# Altium schematic symbol library GuitarLibrary.SchLib: 49 symbols
Pins are listed as number, name and electrical type; pins without a type are passive.

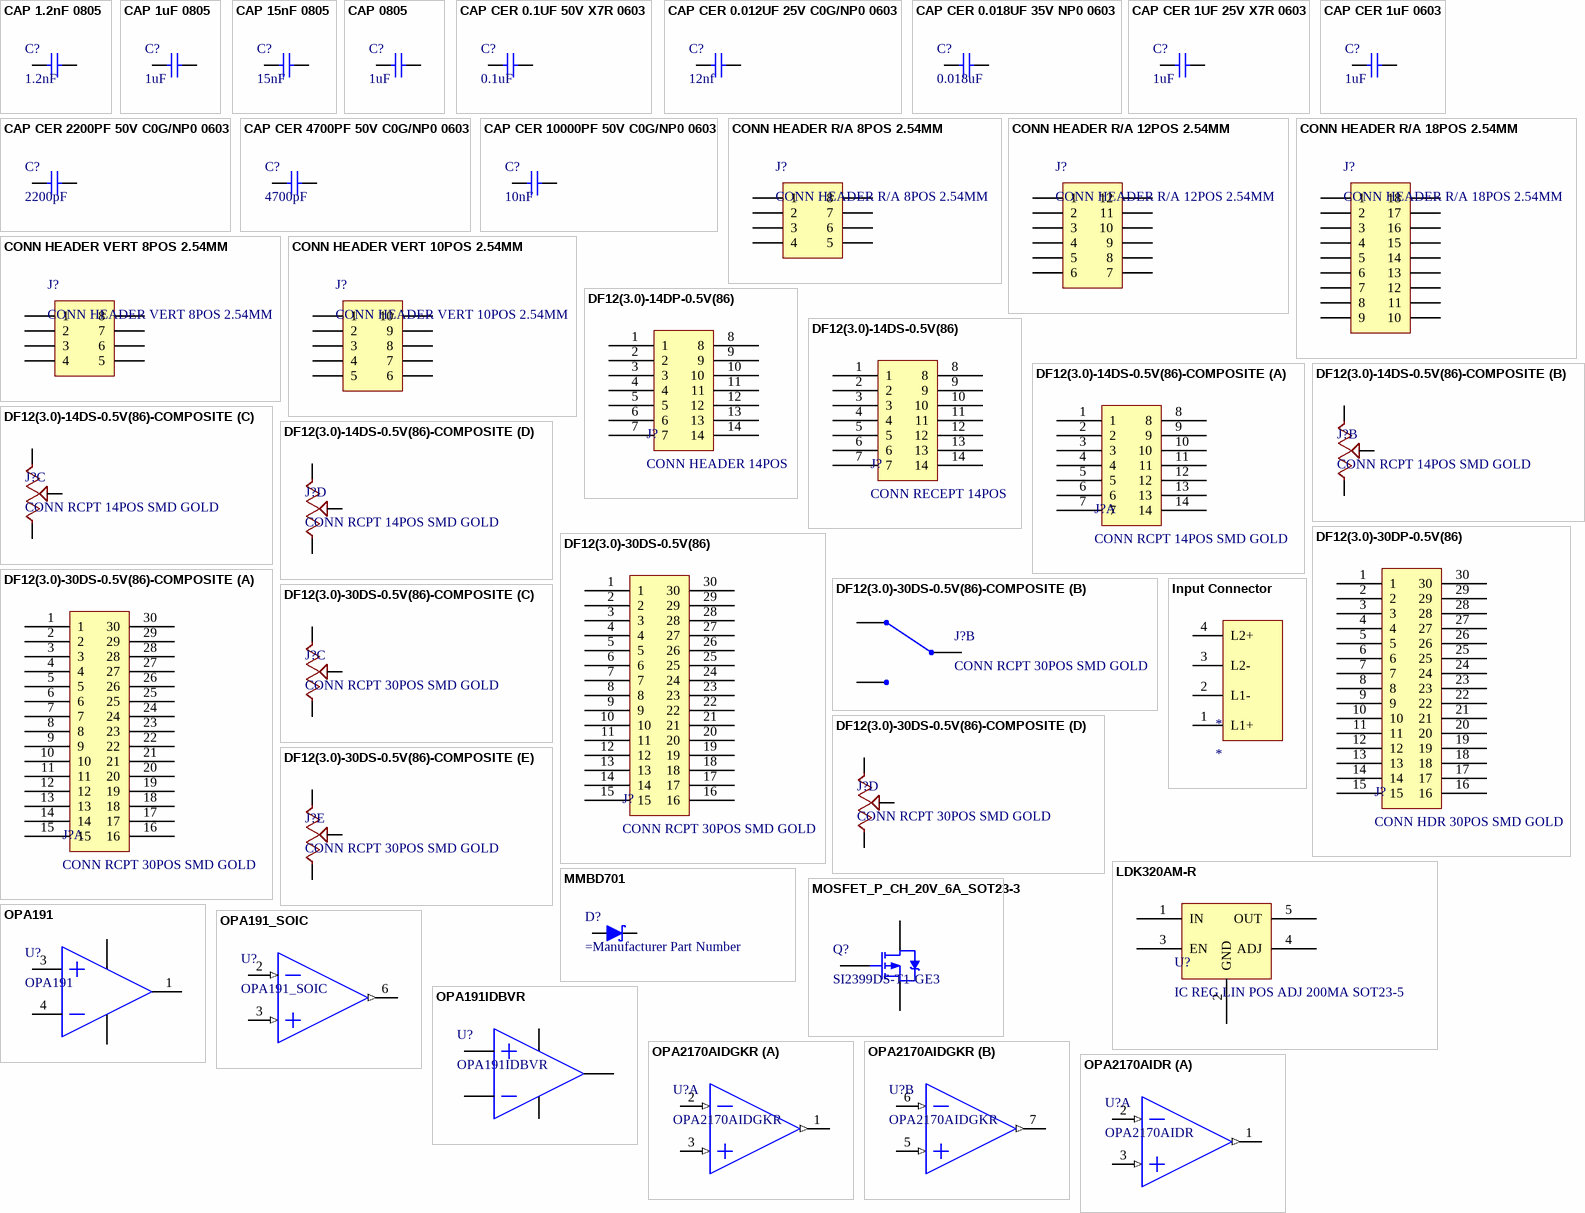
[diagram p0: symbols CAP 1.2nF 0805 to OPA2170AIDR]

## CAP 1.2nF 0805
designator C?, comment 1.2nF
CAP 1.2nF 0805; Rating: C0G; Value: 1.2nF
footprint CAPC2012X09N (Chip Capacitor, 2-Leads, Body 2.00x1.25mm, IPC Medium Density)
pins: 1, 2

## CAP 1uF 0805
designator C?, comment 1uF
CAP 1uF 0805; Rating: X7R; Value: 1uF
footprint CAPC2012X09N (Chip Capacitor, 2-Leads, Body 2.00x1.25mm, IPC Medium Density)
pins: 1, 2

## CAP 15nF 0805
designator C?, comment 15nF
CAP 15nF 0805; Rating: C0G; Value: 15nF
footprint CAPC2012X09N (Chip Capacitor, 2-Leads, Body 2.00x1.25mm, IPC Medium Density)
pins: 1, 2

## CAP 0805
designator C?, comment 1uF
CAP 0805; Value: 1uF
footprint CAPC2012X09N (Chip Capacitor, 2-Leads, Body 2.00x1.25mm, IPC Medium Density)
pins: 1, 2

## CAP CER 0.1UF 50V X7R 0603
designator C?, comment 0.1uF
0.1µF ±10% 50V Ceramic Capacitor X7R 0603 (1608 Metric); Value: 0.1uF; Digikey Part Number: 1276-CL10B104KB8NNNLCT-ND; Package: 0603; Voltage: 50V; Rating: X7R; Tolerance: 10%
footprint CAPC1608X09N (Chip Capacitor, 2-Leads, Body 1.60x0.80mm, IPC Medium Density)
pins: 1, 2

## CAP CER 0.012UF 25V C0G/NP0 0603
designator C?, comment 12nf
0.012µF ±5% 25V Ceramic Capacitor C0G, NP0 0603 (1608 Metric); Manufacturer: Kemet; Rating: C0G/NP0; Digikey Part Number: 399-20390-1-ND; Value: 12nf; Tolerance: 5%; Voltage: 25V
footprint CAPC1608X09N (Chip Capacitor, 2-Leads, Body 1.60x0.80mm, IPC Medium Density)
pins: 1, 2

## CAP CER 0.018UF 35V NP0 0603
designator C?, comment 0.018uF
CAP CER 0.018UF 35V NP0 0603; Tolerance: 5%; Value: 0.018uF; Digikey Part Number: 445-174558-1-ND; Package: 0603; Voltage: 35V; Rating: NP0
footprint CAPC1608X09N (Chip Capacitor, 2-Leads, Body 1.60x0.80mm, IPC Medium Density)
pins: 1, 2

## CAP CER 1UF 25V X7R 0603
designator C?, comment 1uF
1µF ±10% 25V Ceramic Capacitor X7R 0603 (1608 Metric); Value: 1uF; Digikey Part Number: 490-10673-1-ND; Package: 0603; Voltage: 25V; Rating: X7R; Tolerance: 10%
footprint CAPC1608X09N (Chip Capacitor, 2-Leads, Body 1.60x0.80mm, IPC Medium Density)
pins: 1, 2

## CAP CER 1uF 0603
designator C?, comment 1uF
Manufacturer: Murata; Manufacturer Part Number: GRM188R7YA105KA12D; Voltage: 35V; Rating: X7R; Tolerance: 10%; Value: 1uF; Digikey Part Number: 490-10487-1-ND
footprint CAPC1608X09N (Chip Capacitor, 2-Leads, Body 1.60x0.80mm, IPC Medium Density)
pins: 1, 2

## CAP CER 2200PF 50V C0G/NP0 0603
designator C?, comment 2200pF
2200pF ±1% 50V Ceramic Capacitor C0G, NP0 0603 (1608 Metric); Manufacturer: Murata; Value: 2200pF; Digikey Part Number: 490-7768-1-ND; Voltage: 50V; Tolerance: 1%; Rating: C0G
footprint CAPC1608X09N (Chip Capacitor, 2-Leads, Body 1.60x0.80mm, IPC Medium Density)
pins: 1, 2

## CAP CER 4700PF 50V C0G/NP0 0603
designator C?, comment 4700pF
4700pF ±5% 50V Ceramic Capacitor C0G, NP0 0603 (1608 Metric); Manufacturer: Murata; Value: 4700pF; Digikey Part Number: 490-9669-1-ND; Voltage: 50V; Tolerance: 5%; Rating: C0G
footprint CAPC1608X09N (Chip Capacitor, 2-Leads, Body 1.60x0.80mm, IPC Medium Density)
pins: 1, 2

## CAP CER 10000PF 50V C0G/NP0 0603
designator C?, comment 10nF
10000pF ±5% 50V Ceramic Capacitor C0G, NP0 0603 (1608 Metric); Manufacturer: Murata; Digikey Part Number: 490-9666-1-ND; Value: 10nF; Rating: C0G
footprint CAPC1608X09N (Chip Capacitor, 2-Leads, Body 1.60x0.80mm, IPC Medium Density)
pins: 1, 2

## CONN HEADER R/A 8POS 2.54MM
designator J?
Connector Header Through Hole, Right Angle 8 position 0.100" (2.54mm); Manufacturer: Samtec Inc.; Digikey Part Number: SAM12315-ND
footprint CONN HEADER R/A 8POS 2.54MM (Connector Header Through Hole, Right Angle 8 position 0.100" (2.54mm))
pins: 1, 2, 3, 4, 5, 6, 7, 8

## CONN HEADER R/A 12POS 2.54MM
designator J?
Connector Header Through Hole, Right Angle 12 position 0.100" (2.54mm); Manufacturer: Samtec Inc.; Digikey Part Number: SAM10343-ND
footprint CONN HEADER R/A 12POS 2.54MM (Connector Header Through Hole, Right Angle 12 position 0.100" (2.54mm))
pins: 1, 2, 3, 4, 5, 6, 7, 8, 9, 10, 11, 12

## CONN HEADER R/A 18POS 2.54MM
designator J?
Connector Header Through Hole, Right Angle 18 position 0.100" (2.54mm); Manufacturer: Samtec Inc.; Digikey Part Number: SAM1041-09-ND
footprint CONN HEADER R/A 18POS 2.54MM (Connector Header Through Hole, Right Angle 18 position 0.100" (2.54mm))
pins: 1, 2, 3, 4, 5, 6, 7, 8, 9, 10, 11, 12, 13, 14, 15, 16, 17, 18

## CONN HEADER VERT 8POS 2.54MM
designator J?
Connector Header Through Hole 8 position 0.100" (2.54mm); Manufacturer: Samtec Inc.; Digikey Part Number: SAM8996-ND
footprint CONN HEADER VERT 8POS 2.54MM (Connector Header Through Hole 8 position 0.100" (2.54mm))
pins: 1, 2, 3, 4, 5, 6, 7, 8

## CONN HEADER VERT 10POS 2.54MM
designator J?
Connector Header Through Hole 10 position 0.100" (2.54mm); Manufacturer: Samtec Inc.; Digikey Part Number: SAM8999-ND
footprint CONN HEADER VERT 10POS 2.54MM (Connector Header Through Hole 10 position 0.100" (2.54mm))
pins: 1, 2, 3, 4, 5, 6, 7, 8, 9, 10

## DF12(3.0)-14DP-0.5V(86)
designator J?, comment CONN HEADER 14POS
14 Position Connector Header, Outer Shroud Contacts Surface Mount Gold; Manufacturer: Hirose; Digikey Part Number: H11701CT-ND
footprint DF12(3.0)-14DP (CONN HEADER 14POS 3MM SMD 0.5MM)
pins: 1, 2, 3, 4, 5, 6, 7, 8, 9, 10, 11, 12, 13, 14

## DF12(3.0)-14DS-0.5V(86)
designator J?, comment CONN RECEPT 14POS
14 Position Connector Receptacle, Center Strip Contacts Surface Mount Gold; Manufacturer: Hirose; Digikey Part Number: H11702CT-ND
footprint DF12(3.0)-14DS (CONN RECEPT 14POS 3MM SMD 0.5MM)
pins: 1, 2, 3, 4, 5, 6, 7, 8, 9, 10, 11, 12, 13, 14

## DF12(3.0)-14DS-0.5V(86)-COMPOSITE
designator J?, comment CONN RCPT 14POS SMD GOLD
14 Position Connector Header, Outer Shroud Contacts Surface Mount Gold; Manufacturer: Hirose; Digikey Part Number: H11702CT-ND
footprint DF12(3.0)-14DS (CONN RECEPT 14POS 3MM SMD 0.5MM)
part A pins: 1, 2, 3, 4, 5, 6, 7, 8, 9, 10, 11, 12, 13, 14
part B pins: 1 B1, 8 A1, 9 W1
part C pins: 2 A2, 3 W2, 4 B2
part D pins: 5 A3, 6 W3, 7 B3

## DF12(3.0)-30DP-0.5V(86)
designator J?, comment CONN HDR 30POS SMD GOLD
30 Position Connector Header, Outer Shroud Contacts Surface Mount Gold; Manufacturer: Hirose; Digikey Part Number: H11703CT-ND
footprint DF12(3.0)-30DP (CONN HEADER 30POS 3MM SMD 0.5MM)
pins: 1, 2, 3, 4, 5, 6, 7, 8, 9, 10, 11, 12, 13, 14, 15, 16, 17, 18, 19, 20, 21, 22, 23, 24, 25, 26, 27, 28, 29, 30

## DF12(3.0)-30DS-0.5V(86)
designator J?, comment CONN RCPT 30POS SMD GOLD
30 Position Connector Header, Outer Shroud Contacts Surface Mount Gold; Manufacturer: Hirose; Digikey Part Number: H11703CT-ND
footprint DF12(3.0)-30DS (CONN RCPT 30POS SMD 0.5MM)
pins: 1, 2, 3, 4, 5, 6, 7, 8, 9, 10, 11, 12, 13, 14, 15, 16, 17, 18, 19, 20, 21, 22, 23, 24, 25, 26, 27, 28, 29, 30

## DF12(3.0)-30DS-0.5V(86)-COMPOSITE
designator J?, comment CONN RCPT 30POS SMD GOLD
30 Position Connector Header, Outer Shroud Contacts Surface Mount Gold; Manufacturer: Hirose; Digikey Part Number: H11702CT-ND
footprint DF12(3.0)-30DS (CONN RCPT 30POS SMD 0.5MM)
part A pins: 1, 2, 3, 4, 5, 6, 7, 8, 9, 10, 11, 12, 13, 14, 15, 16, 17, 18, 19, 20, 21, 22, 23, 24, 25, 26, 27, 28, 29, 30
part B pins: 16, 17, 18
part C pins: 7 B1, 8 W1, 9 A1
part D pins: 4 B2, 5 W2, 6 A2
part E pins: 10 B3, 11 W3, 12 A3

## Input Connector
designator *
footprint Conn 4 Pin 2.54mm Pitch (Connector, Through-hole, 2.54mm Pitch)
pins: 1 L1+, 2 L1-, 3 L2-, 4 L2+

## LDK320AM-R
designator U?, comment IC REG LIN POS ADJ 200MA SOT23-5
Linear Voltage Regulator IC 1 Output 200mA SOT-23-5; Manufacturer: STMicroelectronics; Voltage - Input (Max): 18V; Voltage Dropout (Max): 0.35V @ 200mA; Current - Quiescent (Iq): 90µA; Digikey Part Number: 497-16672-1-ND; Current - Output: 200mA
footprint SOT95P280X145-5N (SOT23, 5-Leads, Body 2.95x2.80mm, Pitch 0.95mm, IPC Medium Density)
pins: 1 IN, 2 GND, 3 EN, 4 ADJ, 5 OUT

## MMBD701
designator D?
SOT-23 Schottky Diode; Type: SCHOT; Voltage: 40V; Footprint: DO-214AC; Digikey Part Number: SS14-E3/61TGICT-ND
footprint SOT95P230X110-3N (SOT23, 3-Leads, Body 2.90x2.30mm, Pitch 0.95mm, IPC Medium Density)
pins: 1, 3

## MOSFET_P_CH_20V_6A_SOT23-3
designator Q?, comment SI2399DS-T1-GE3
Reverse Voltage MOSFET; Manufacturer: Vishay Siliconix; VDS: 20V; Rds On (Max): 34 mOhm @ 5.1A, 10V; Digikey Part Number: SI2399DS-T1-GE3CT-ND; Value: SI2399DS-T1-GE3
footprint SOT95P237X112-3N (SOT23, 3-Leads, Body 2.92x2.37mm, Pitch 0.95mm, IPC Medium Density)
pins: 1 G, 2 S, 3 D

## OPA191
designator U?
Low Power CMOS Amp; Manufacturer: Texas Instruments; Amplifier: Low Power
footprint SOT23-5
pins: 1 Out, 2 V- hidden to GND, 3 +IN, 4 -IN, 5 V+ hidden to V+

## OPA191_SOIC
designator U?
Low Power CMOS Amp; Manufacturer: Texas Instruments; Digikey Part Number: 296-43805-1-ND; Amplifier: Low Power
footprint SOIC127P600X175-8N (SOIC, 8-Leads, Body 4.90x3.90mm, Pitch 1.27mm, IPC Medium Density)
pins: 2 -IN (in), 3 +IN (in), 4 V- hidden to GND, 6 Out (out), 7 V+ (in) hidden to V+

## OPA191IDBVR
designator U?
General Purpose Amplifier 1 Circuit Rail-to-Rail SOT-23-5; Digikey Part Number: 296-44386-1-ND; Package: SOT-23-5
footprint SOT23-5
pins: 1 VOUT, 2 GND (power), 3 VIN+, 4 VIN-, 5 V+ (power)

## OPA2170AIDGKR
designator U?
General Purpose Amplifier 2 Circuit Rail-to-Rail 8-VSSOP; Manufacturer: Texas Instruments; Amplifier: Low Power; Digikey Part Number: 296-36694-1-ND
footprint TSOP65P490X110-8N (TSOP, 8-Leads, Body 3.00x3.00mm, Pitch 0.65mm, IPC Medium Density)
part A pins: 1 Out_A (out), 2 -IN_A (in), 3 +IN_A (in), 4 V- (power) hidden to GND, 8 V+ (power) hidden to V+
part B pins: 5 +IN_B (in), 6 -IN_B (in), 7 OUT_B (out)

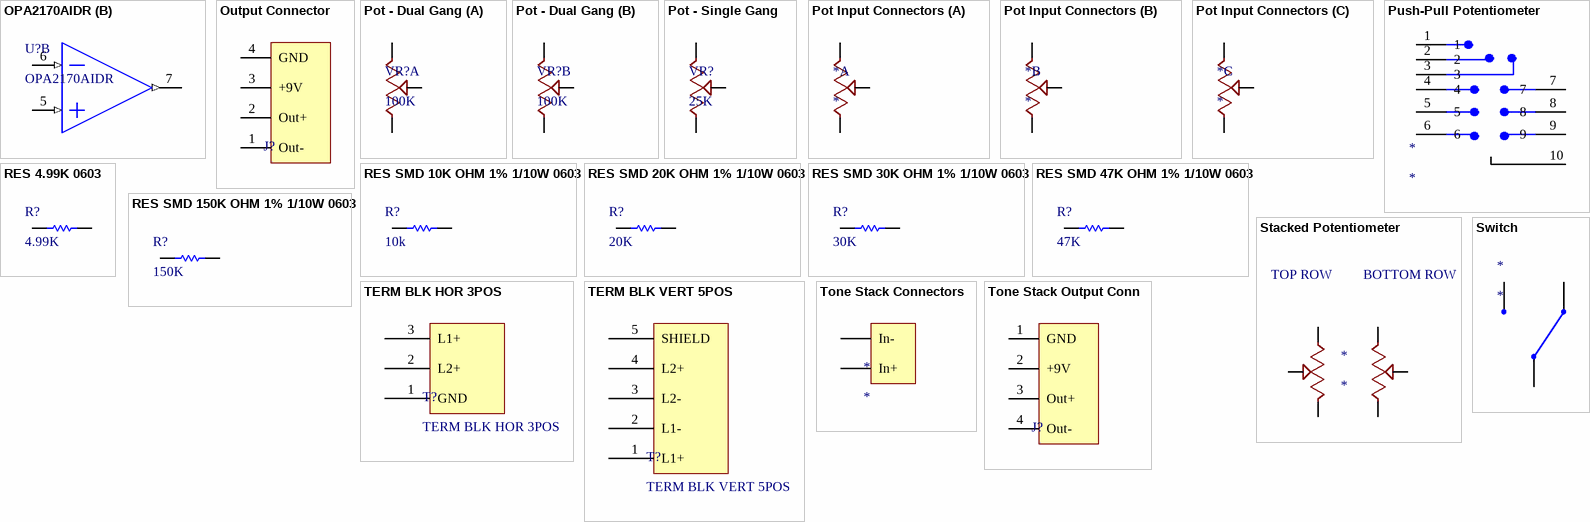
[diagram p1: symbols OPA2170AIDR to Tone Stack Output Conn]

## OPA2170AIDR
designator U?
Low Power CMOS Amp; Manufacturer: Texas Instruments; Amplifier: Low Power
footprint SOIC127P600X175-8M (SOIC, 8-Leads, Body 4.90x3.90mm, Pitch 1.27mm, IPC Low Density)
part A pins: 1 Out_A (out), 2 -IN_A (in), 3 +IN_A (in), 4 V- (power) hidden to GND, 8 V+ (power) hidden to V+
part B pins: 5 +IN_B (in), 6 -IN_B (in), 7 OUT_B (out)

## Output Connector
designator J?  (value not drawn)
footprint Conn 4 Pin 2.54mm Pitch (Connector, Through-hole, 2.54mm Pitch)
pins: 1 Out-, 2 Out+, 3 +9V, 4 GND

## Pot - Dual Gang
designator VR?, comment 100K
Cable: 455-3015-ND; Digikey Part Number: 455-1806-1-ND; Value: 100K
footprint SM06B (JST 6 POS 1MM)
part A pins: 2 W1, 4 B1, 5 A1
part B pins: 1 B2, 3 W2, 6 A2

## Pot - Single Gang
designator VR?, comment 25K
Cable: 455-3002-ND; Value: 25K; Digikey Part Number: 455-1804-1-ND
footprint SM04B (JST 4 POS 1MM)
pins: 1 W, 2 B, 3 A

## Pot Input Connectors
designator *
footprint Conn 9 Pin 2.54mm Pitch (Connector, Through-hole, 2.54mm Pitch)
part A pins: 1 A1, 2 W1, 3 B1
part B pins: 4 A2, 5 W2, 6 B2
part C pins: 7 A3, 8 W3, 9 B3

## Push-Pull Potentiometer
designator *
footprint PUSH-PULL POTENTIOMETER (Push Pull Potentiometer)
pins: 1, 2, 3, 4, 5, 6, 7, 8, 9, 10

## RES 4.99K 0603
designator R?, comment 4.99K
Tolerance: 1%; Type: RES; Footprint: 0603; Value: 4.99K; Digikey Part Number: 311-4.99KHRCT-ND
footprint RESC1608X06N (Chip Resistor, 2-Leads, Body 1.55x0.85mm, IPC Medium Density)
pins: 1, 2

## RES SMD 10K OHM 1% 1/10W 0603
designator R?, comment 10k
RES SMD 10K OHM 1% 1/10W 0603; Manufacturer: Yageo; Manufacturer Part Number: RC0603FR-0710KL; Power: 0.1W; Type: RES; Footprint: 0603; Tolerance: 1%; Temperature: 155dC; Digikey Part Number: 311-10.0KHRCT-ND; Value: 10k
footprint RESC1608X06N (Chip Resistor, 2-Leads, Body 1.55x0.85mm, IPC Medium Density)
pins: 1, 2

## RES SMD 20K OHM 1% 1/10W 0603
designator R?, comment 20K
RES SMD 20K OHM 1% 1/10W 0603; Type: RES; Footprint: 0603; Tolerance: 1%; Value: 20K; Digikey Part Number: 311-20.0KHRCT-ND
footprint RESC1608X06N (Chip Resistor, 2-Leads, Body 1.55x0.85mm, IPC Medium Density)
pins: 1, 2

## RES SMD 30K OHM 1% 1/10W 0603
designator R?, comment 30K
RES SMD 30K OHM 1% 1/10W 0603; Type: RES; Footprint: 0603; Tolerance: 1%; Value: 30K; Digikey Part Number: 311-30.0KHRCT-ND
footprint RESC1608X06N (Chip Resistor, 2-Leads, Body 1.55x0.85mm, IPC Medium Density)
pins: 1, 2

## RES SMD 47K OHM 1% 1/10W 0603
designator R?, comment 47K
RES 47K 0603; Tolerance: 1%; Type: RES; Footprint: 0603; Value: 47K; Digikey Part Number: 311-47.0KHRCT-ND
footprint RESC1608X06N (Chip Resistor, 2-Leads, Body 1.55x0.85mm, IPC Medium Density)
pins: 1, 2

## RES SMD 150K OHM 1% 1/10W 0603
designator R?, comment 150K
RES SMD 150K OHM 1% 1/10W 0603; Type: RES; Footprint: 0603; Tolerance: 1%; Value: 150K; Digikey Part Number: 311-150KHRCT-ND
footprint RESC1608X06N (Chip Resistor, 2-Leads, Body 1.55x0.85mm, IPC Medium Density)
pins: 1, 2

## Stacked Potentiometer
designator *
footprint STACKED POTENTIOMETER (Stacked Potentiometer)
pins: 1 A1, 2 W1, 3 B1, 4 B2, 5 W2, 6 A2
text: TOP ROW; BOTTOM ROW

## Switch
designator *
footprint Conn 3 Pin 2.54mm Pitch (Connector, Through-hole, 2.54mm Pitch)
pins: 1, 2, 3

## TERM BLK HOR 3POS
designator T?
3 Position Wire to Board Terminal Block Horizontal with Board 0.100" (2.54mm) Surface Mount; Digikey Part Number: 1195-3657-1-ND
footprint TERM BLK HOR 3POS (3 Position Wire to Board Terminal Block Horizontal with Board 0.100" (2.54mm) Surface Mount)
pins: 1 GND, 2 L2+, 3 L1+

## TERM BLK VERT 5POS
designator T?
5 Position Wire to Board Terminal Block Vertical with Board 0.100" (2.54mm) Surface Mount
footprint TERM BLK 5POS (5 Position Wire to Board Terminal Block Vertical with Board 0.100" (2.54mm) Surface Mount)
pins: 1 L1+, 2 L1-, 3 L2-, 4 L2+, 5 SHIELD

## Tone Stack Connectors
designator *
footprint Conn 2 Pin 2.54mm Pitch (Connector, Through-hole, 2.54mm Pitch)
pins: 1 In+, 2 In-

## Tone Stack Output Conn
designator J?  (value not drawn)
footprint Conn 4 Pin 2.54mm Pitch (Connector, Through-hole, 2.54mm Pitch)
pins: 1 GND, 2 +9V, 3 Out+, 4 Out-